# Altium integrated library Linear Technology Power Management System Supervisor, Monitor and Control.IntLib: 1611 symbols (part 61 of 100)
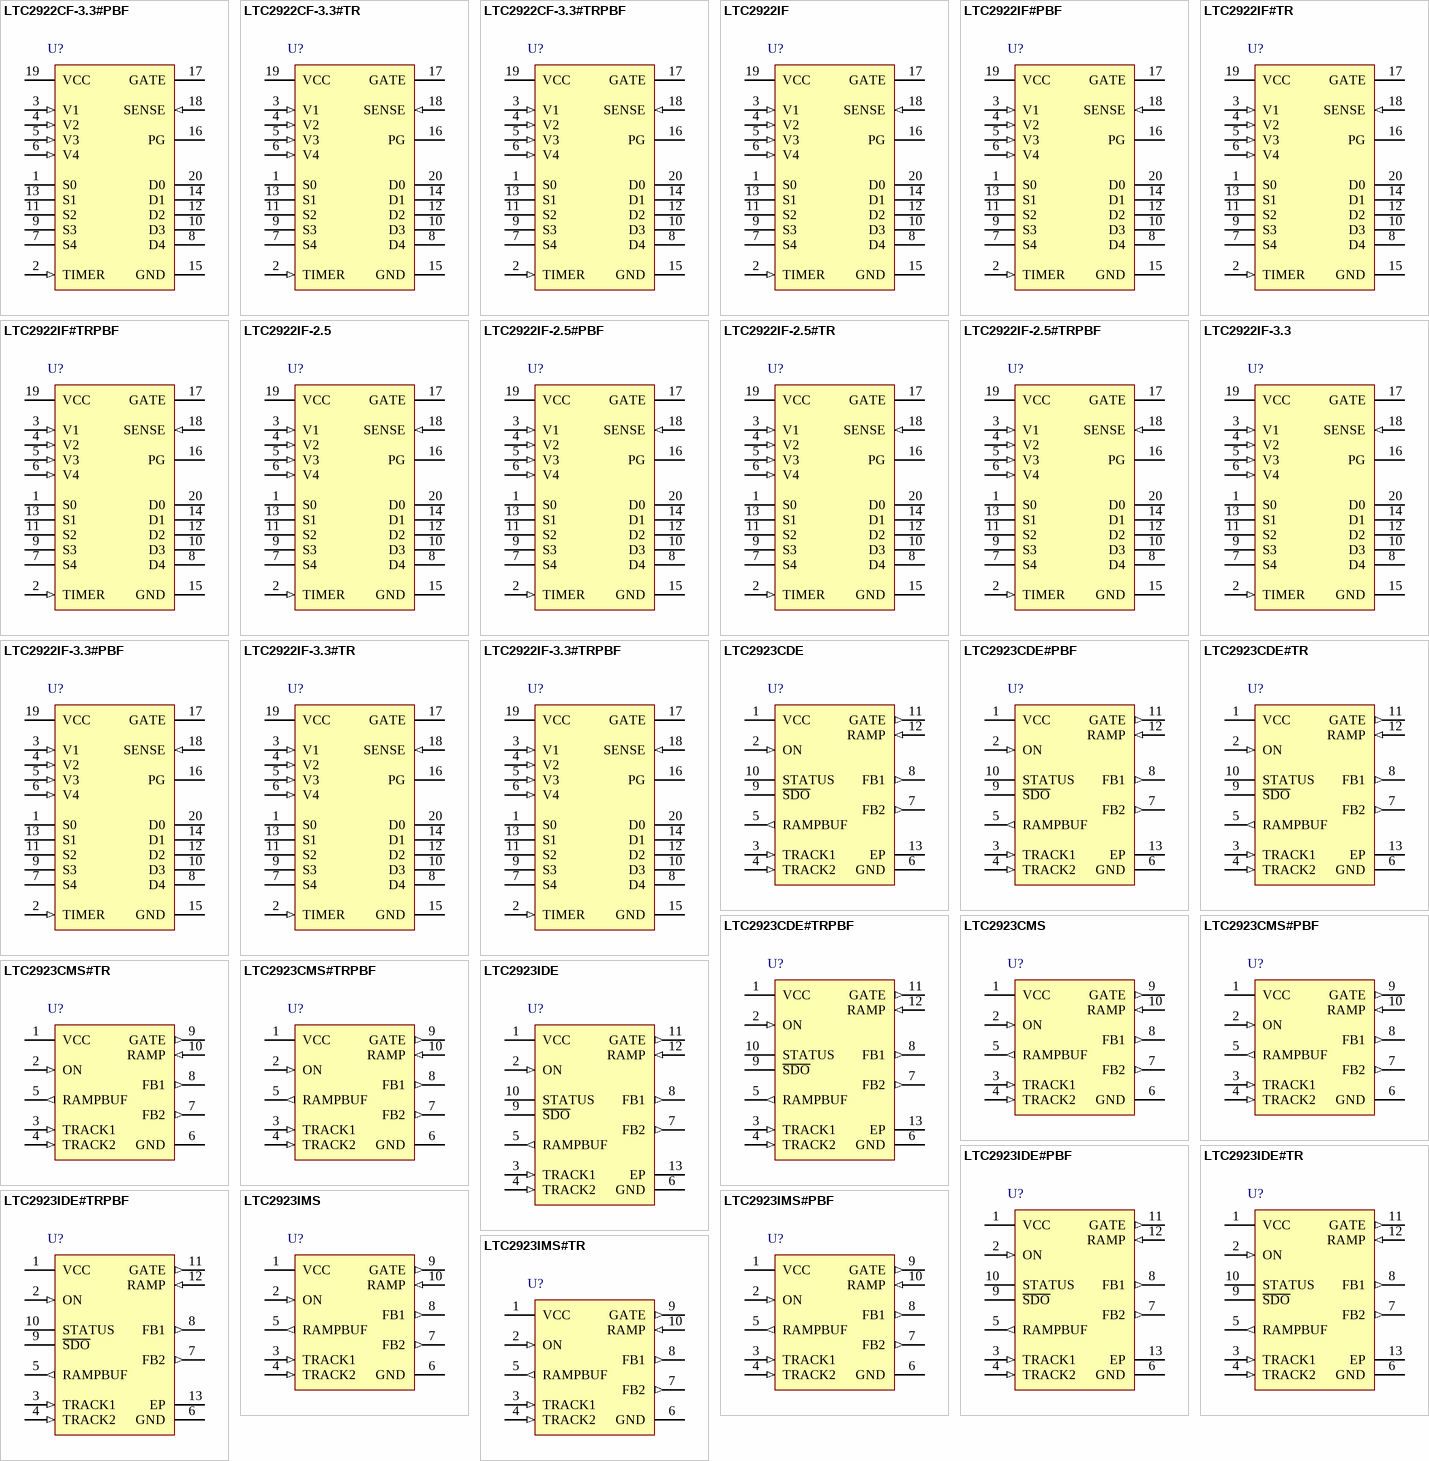
[diagram p105: symbols LTC2922CF-3.3#PBF to LTC2923IMS#TR]

## LTC2922IF#TRPBF
designator U?
Power Supply Tracker with Input Monitor, 20-pin SOP (F-20), -40 to 85 degC, Pb-Free, Tape and Reel; Manufacturer: Linear Technology; PartNumber: LTC2922IF#TRPBF; Number of Supplies(#): 5; DatasheetVersion: Rev. A; PackageVersion: Jun-10; PackageReference: F-20; PackageDescription: 20-Pin Plastic TSSOP, Body 6.5 x 4.4 mm, Pitch 0.65 mm; Supplier 1: Digi-Key; Supplier Part Number 1: LTC2922IF#TRPBF-ND; Packing: Tape and Reel; RoHS: TRUE; Mounting Technology: Surface Mount; ComponentLink1Description: Manufacturer URL; ComponentLink1URL: http://www.linear.com/; ComponentLink2Description: Datasheet; ComponentLink2URL: http://cds.linear.com/docs/en/datasheet/29212fa.pdf; ComponentLink3Description: Package Specification; ComponentLink3URL: http://cds.linear.com/docs/en/packaging/TSSOP_20_05-08-1650.pdf
footprint LT-F-20_N (SOP, 20-Leads, Body 6.6x4.5mm, Pitch 0.65mm, IPC Medium Density)
footprint LT-F-20_L (SOP, 20-Leads, Body 6.6x4.5mm, Pitch 0.65mm, IPC High Density)
footprint LT-F-20_M (SOP, 20-Leads, Body 6.6x4.5mm, Pitch 0.65mm, IPC Low Density)
pins: 1 S0 "Remote Switch 0. These pins are the terminals of an internal N-channel FET switch that is enabled after the GATE pin is fully ramped up. This switch can be used to connect a remote sense line to compensate for IR drop across (See Datasheet)", 2 TIMER (in) "Timing Delay Input. Connect a capacitor between this pin and ground to set a 600ms/mF delay at two points in the monitoring sequence. This sets the delay after all monitors are good, before the start of GATE ramping, and the (See Datasheet)", 3 V1 (in) "Supply Monitor Inputs. All four inputs must lie above the monitor threshold level (0.5V) and below the monitor overvoltage level (0.7V) for a turnon sequence to commence or continue. When any monitor input falls outside (See Datasheet)", 4 V2 (in) "Supply Monitor Inputs. All four inputs must lie above the monitor threshold level (0.5V) and below the monitor overvoltage level (0.7V) for a turnon sequence to commence or continue. When any monitor input falls outside (See Datasheet)", 5 V3 (in) "Supply Monitor Inputs. All four inputs must lie above the monitor threshold level (0.5V) and below the monitor overvoltage level (0.7V) for a turnon sequence to commence or continue. When any monitor input falls outside (See Datasheet)", 6 V4 (in) "Supply Monitor Inputs. All four inputs must lie above the monitor threshold level (0.5V) and below the monitor overvoltage level (0.7V) for a turnon sequence to commence or continue. When any monitor input falls outside (See Datasheet)", 7 S4 "Remote Sense Switch 4. Tie to GND if unused.", 8 D4 "Remote Sense Switch 4. Tie to GND if unused.", 9 S3 "Remote Sense Switch 3. Tie to GND if unused.", 10 D3 "Remote Sense Switch 3. Tie to GND if unused.", 11 S2 "Remote Sense Switch 2. Tie to GND if unused.", 12 D2 "Remote Sense Switch 2. Tie to GND if unused.", 13 S1 "Remote Sense Switch 1. Tie to GND if unused.", 14 D1 "Remote Sense Switch 1. Tie to GND if unused.", 15 GND (power) "Circuit Ground.", 16 PG (oc) "Power Good Output. A 4uA current source from the internal charge pump rail (VPUMP) pulls PG up after the turn-on sequence is complete. The output is pulled to ground before turn-on is complete, when any monitor is out of (See Datasheet)", 17 GATE (oc) "Gate Drive for External N-Channel FETs. A 10uA current source from the internal charge pump rail (VPUMP) ramps the gates of the external Nchannel MOSFETs forcing all supplies to track on. The resistor and capacitor network (See Datasheet)", 18 SENSE (in) "Circuit Breaker Sense Input. An external resistor between VCC and SENSE sets the electronic circuit breaker trip current. The breaker trips when the voltage across the resistor exceeds 50mV for 1us. To disable the circuit (See Datasheet)", 19 VCC (power) "Supply Voltage. The voltage at VCC is monitored through an internal resistive divider in a manner similar to the V1-V4 inputs. An undervoltage lockout circuit disables the part until the voltage at VCC is greater than 2.2V. (See Datasheet)", 20 D0 "Remote Switch 0. These pins are the terminals of an internal N-channel FET switch that is enabled after the GATE pin is fully ramped up. This switch can be used to connect a remote sense line to compensate for IR drop across (See Datasheet)"

## LTC2922IF-2.5
designator U?
Power Supply Tracker with Input Monitor, 20-pin SOP (F-20), -40 to 85 degC; Manufacturer: Linear Technology; PartNumber: LTC2922IF-2.5; Number of Supplies(#): 5; DatasheetVersion: Rev. A; PackageVersion: Jun-10; PackageReference: F-20; PackageDescription: 20-Pin Plastic TSSOP, Body 6.5 x 4.4 mm, Pitch 0.65 mm; Supplier 1: Digi-Key; Supplier Part Number 1: LTC2922IF-2.5-ND; RoHS: FALSE; Mounting Technology: Surface Mount; ComponentLink1Description: Manufacturer URL; ComponentLink1URL: http://www.linear.com/; ComponentLink2Description: Datasheet; ComponentLink2URL: http://cds.linear.com/docs/en/datasheet/29212fa.pdf; ComponentLink3Description: Package Specification; ComponentLink3URL: http://cds.linear.com/docs/en/packaging/TSSOP_20_05-08-1650.pdf
footprint LT-F-20_N (SOP, 20-Leads, Body 6.6x4.5mm, Pitch 0.65mm, IPC Medium Density)
footprint LT-F-20_L (SOP, 20-Leads, Body 6.6x4.5mm, Pitch 0.65mm, IPC High Density)
footprint LT-F-20_M (SOP, 20-Leads, Body 6.6x4.5mm, Pitch 0.65mm, IPC Low Density)
pins: 1 S0 "Remote Switch 0. These pins are the terminals of an internal N-channel FET switch that is enabled after the GATE pin is fully ramped up. This switch can be used to connect a remote sense line to compensate for IR drop across (See Datasheet)", 2 TIMER (in) "Timing Delay Input. Connect a capacitor between this pin and ground to set a 600ms/mF delay at two points in the monitoring sequence. This sets the delay after all monitors are good, before the start of GATE ramping, and the (See Datasheet)", 3 V1 (in) "Supply Monitor Inputs. All four inputs must lie above the monitor threshold level (0.5V) and below the monitor overvoltage level (0.7V) for a turnon sequence to commence or continue. When any monitor input falls outside (See Datasheet)", 4 V2 (in) "Supply Monitor Inputs. All four inputs must lie above the monitor threshold level (0.5V) and below the monitor overvoltage level (0.7V) for a turnon sequence to commence or continue. When any monitor input falls outside (See Datasheet)", 5 V3 (in) "Supply Monitor Inputs. All four inputs must lie above the monitor threshold level (0.5V) and below the monitor overvoltage level (0.7V) for a turnon sequence to commence or continue. When any monitor input falls outside (See Datasheet)", 6 V4 (in) "Supply Monitor Inputs. All four inputs must lie above the monitor threshold level (0.5V) and below the monitor overvoltage level (0.7V) for a turnon sequence to commence or continue. When any monitor input falls outside (See Datasheet)", 7 S4 "Remote Sense Switch 4. Tie to GND if unused.", 8 D4 "Remote Sense Switch 4. Tie to GND if unused.", 9 S3 "Remote Sense Switch 3. Tie to GND if unused.", 10 D3 "Remote Sense Switch 3. Tie to GND if unused.", 11 S2 "Remote Sense Switch 2. Tie to GND if unused.", 12 D2 "Remote Sense Switch 2. Tie to GND if unused.", 13 S1 "Remote Sense Switch 1. Tie to GND if unused.", 14 D1 "Remote Sense Switch 1. Tie to GND if unused.", 15 GND (power) "Circuit Ground.", 16 PG (oc) "Power Good Output. A 4uA current source from the internal charge pump rail (VPUMP) pulls PG up after the turn-on sequence is complete. The output is pulled to ground before turn-on is complete, when any monitor is out of (See Datasheet)", 17 GATE (oc) "Gate Drive for External N-Channel FETs. A 10uA current source from the internal charge pump rail (VPUMP) ramps the gates of the external Nchannel MOSFETs forcing all supplies to track on. The resistor and capacitor network (See Datasheet)", 18 SENSE (in) "Circuit Breaker Sense Input. An external resistor between VCC and SENSE sets the electronic circuit breaker trip current. The breaker trips when the voltage across the resistor exceeds 50mV for 1us. To disable the circuit (See Datasheet)", 19 VCC (power) "Supply Voltage. The voltage at VCC is monitored through an internal resistive divider in a manner similar to the V1-V4 inputs. An undervoltage lockout circuit disables the part until the voltage at VCC is greater than 2.2V. (See Datasheet)", 20 D0 "Remote Switch 0. These pins are the terminals of an internal N-channel FET switch that is enabled after the GATE pin is fully ramped up. This switch can be used to connect a remote sense line to compensate for IR drop across (See Datasheet)"

## LTC2922IF-2.5#PBF
designator U?
Power Supply Tracker with Input Monitor, 20-pin SOP (F-20), -40 to 85 degC, Pb-Free; Manufacturer: Linear Technology; PartNumber: LTC2922IF-2.5#PBF; Number of Supplies(#): 5; DatasheetVersion: Rev. A; PackageVersion: Jun-10; PackageReference: F-20; PackageDescription: 20-Pin Plastic TSSOP, Body 6.5 x 4.4 mm, Pitch 0.65 mm; Supplier 1: Digi-Key; Supplier Part Number 1: LTC2922IF-2.5#PBF-ND; RoHS: TRUE; Mounting Technology: Surface Mount; ComponentLink1Description: Manufacturer URL; ComponentLink1URL: http://www.linear.com/; ComponentLink2Description: Datasheet; ComponentLink2URL: http://cds.linear.com/docs/en/datasheet/29212fa.pdf; ComponentLink3Description: Package Specification; ComponentLink3URL: http://cds.linear.com/docs/en/packaging/TSSOP_20_05-08-1650.pdf
footprint LT-F-20_N (SOP, 20-Leads, Body 6.6x4.5mm, Pitch 0.65mm, IPC Medium Density)
footprint LT-F-20_L (SOP, 20-Leads, Body 6.6x4.5mm, Pitch 0.65mm, IPC High Density)
footprint LT-F-20_M (SOP, 20-Leads, Body 6.6x4.5mm, Pitch 0.65mm, IPC Low Density)
pins: 1 S0 "Remote Switch 0. These pins are the terminals of an internal N-channel FET switch that is enabled after the GATE pin is fully ramped up. This switch can be used to connect a remote sense line to compensate for IR drop across (See Datasheet)", 2 TIMER (in) "Timing Delay Input. Connect a capacitor between this pin and ground to set a 600ms/mF delay at two points in the monitoring sequence. This sets the delay after all monitors are good, before the start of GATE ramping, and the (See Datasheet)", 3 V1 (in) "Supply Monitor Inputs. All four inputs must lie above the monitor threshold level (0.5V) and below the monitor overvoltage level (0.7V) for a turnon sequence to commence or continue. When any monitor input falls outside (See Datasheet)", 4 V2 (in) "Supply Monitor Inputs. All four inputs must lie above the monitor threshold level (0.5V) and below the monitor overvoltage level (0.7V) for a turnon sequence to commence or continue. When any monitor input falls outside (See Datasheet)", 5 V3 (in) "Supply Monitor Inputs. All four inputs must lie above the monitor threshold level (0.5V) and below the monitor overvoltage level (0.7V) for a turnon sequence to commence or continue. When any monitor input falls outside (See Datasheet)", 6 V4 (in) "Supply Monitor Inputs. All four inputs must lie above the monitor threshold level (0.5V) and below the monitor overvoltage level (0.7V) for a turnon sequence to commence or continue. When any monitor input falls outside (See Datasheet)", 7 S4 "Remote Sense Switch 4. Tie to GND if unused.", 8 D4 "Remote Sense Switch 4. Tie to GND if unused.", 9 S3 "Remote Sense Switch 3. Tie to GND if unused.", 10 D3 "Remote Sense Switch 3. Tie to GND if unused.", 11 S2 "Remote Sense Switch 2. Tie to GND if unused.", 12 D2 "Remote Sense Switch 2. Tie to GND if unused.", 13 S1 "Remote Sense Switch 1. Tie to GND if unused.", 14 D1 "Remote Sense Switch 1. Tie to GND if unused.", 15 GND (power) "Circuit Ground.", 16 PG (oc) "Power Good Output. A 4uA current source from the internal charge pump rail (VPUMP) pulls PG up after the turn-on sequence is complete. The output is pulled to ground before turn-on is complete, when any monitor is out of (See Datasheet)", 17 GATE (oc) "Gate Drive for External N-Channel FETs. A 10uA current source from the internal charge pump rail (VPUMP) ramps the gates of the external Nchannel MOSFETs forcing all supplies to track on. The resistor and capacitor network (See Datasheet)", 18 SENSE (in) "Circuit Breaker Sense Input. An external resistor between VCC and SENSE sets the electronic circuit breaker trip current. The breaker trips when the voltage across the resistor exceeds 50mV for 1us. To disable the circuit (See Datasheet)", 19 VCC (power) "Supply Voltage. The voltage at VCC is monitored through an internal resistive divider in a manner similar to the V1-V4 inputs. An undervoltage lockout circuit disables the part until the voltage at VCC is greater than 2.2V. (See Datasheet)", 20 D0 "Remote Switch 0. These pins are the terminals of an internal N-channel FET switch that is enabled after the GATE pin is fully ramped up. This switch can be used to connect a remote sense line to compensate for IR drop across (See Datasheet)"

## LTC2922IF-2.5#TR
designator U?
Power Supply Tracker with Input Monitor, 20-pin SOP (F-20), -40 to 85 degC, Tape and Reel; Manufacturer: Linear Technology; PartNumber: LTC2922IF-2.5#TR; Number of Supplies(#): 5; DatasheetVersion: Rev. A; PackageVersion: Jun-10; PackageReference: F-20; PackageDescription: 20-Pin Plastic TSSOP, Body 6.5 x 4.4 mm, Pitch 0.65 mm; Supplier 1: Digi-Key; Supplier Part Number 1: LTC2922IF-2.5#TR-ND; Packing: Tape and Reel; RoHS: FALSE; Mounting Technology: Surface Mount; ComponentLink1Description: Manufacturer URL; ComponentLink1URL: http://www.linear.com/; ComponentLink2Description: Datasheet; ComponentLink2URL: http://cds.linear.com/docs/en/datasheet/29212fa.pdf; ComponentLink3Description: Package Specification; ComponentLink3URL: http://cds.linear.com/docs/en/packaging/TSSOP_20_05-08-1650.pdf
footprint LT-F-20_N (SOP, 20-Leads, Body 6.6x4.5mm, Pitch 0.65mm, IPC Medium Density)
footprint LT-F-20_L (SOP, 20-Leads, Body 6.6x4.5mm, Pitch 0.65mm, IPC High Density)
footprint LT-F-20_M (SOP, 20-Leads, Body 6.6x4.5mm, Pitch 0.65mm, IPC Low Density)
pins: 1 S0 "Remote Switch 0. These pins are the terminals of an internal N-channel FET switch that is enabled after the GATE pin is fully ramped up. This switch can be used to connect a remote sense line to compensate for IR drop across (See Datasheet)", 2 TIMER (in) "Timing Delay Input. Connect a capacitor between this pin and ground to set a 600ms/mF delay at two points in the monitoring sequence. This sets the delay after all monitors are good, before the start of GATE ramping, and the (See Datasheet)", 3 V1 (in) "Supply Monitor Inputs. All four inputs must lie above the monitor threshold level (0.5V) and below the monitor overvoltage level (0.7V) for a turnon sequence to commence or continue. When any monitor input falls outside (See Datasheet)", 4 V2 (in) "Supply Monitor Inputs. All four inputs must lie above the monitor threshold level (0.5V) and below the monitor overvoltage level (0.7V) for a turnon sequence to commence or continue. When any monitor input falls outside (See Datasheet)", 5 V3 (in) "Supply Monitor Inputs. All four inputs must lie above the monitor threshold level (0.5V) and below the monitor overvoltage level (0.7V) for a turnon sequence to commence or continue. When any monitor input falls outside (See Datasheet)", 6 V4 (in) "Supply Monitor Inputs. All four inputs must lie above the monitor threshold level (0.5V) and below the monitor overvoltage level (0.7V) for a turnon sequence to commence or continue. When any monitor input falls outside (See Datasheet)", 7 S4 "Remote Sense Switch 4. Tie to GND if unused.", 8 D4 "Remote Sense Switch 4. Tie to GND if unused.", 9 S3 "Remote Sense Switch 3. Tie to GND if unused.", 10 D3 "Remote Sense Switch 3. Tie to GND if unused.", 11 S2 "Remote Sense Switch 2. Tie to GND if unused.", 12 D2 "Remote Sense Switch 2. Tie to GND if unused.", 13 S1 "Remote Sense Switch 1. Tie to GND if unused.", 14 D1 "Remote Sense Switch 1. Tie to GND if unused.", 15 GND (power) "Circuit Ground.", 16 PG (oc) "Power Good Output. A 4uA current source from the internal charge pump rail (VPUMP) pulls PG up after the turn-on sequence is complete. The output is pulled to ground before turn-on is complete, when any monitor is out of (See Datasheet)", 17 GATE (oc) "Gate Drive for External N-Channel FETs. A 10uA current source from the internal charge pump rail (VPUMP) ramps the gates of the external Nchannel MOSFETs forcing all supplies to track on. The resistor and capacitor network (See Datasheet)", 18 SENSE (in) "Circuit Breaker Sense Input. An external resistor between VCC and SENSE sets the electronic circuit breaker trip current. The breaker trips when the voltage across the resistor exceeds 50mV for 1us. To disable the circuit (See Datasheet)", 19 VCC (power) "Supply Voltage. The voltage at VCC is monitored through an internal resistive divider in a manner similar to the V1-V4 inputs. An undervoltage lockout circuit disables the part until the voltage at VCC is greater than 2.2V. (See Datasheet)", 20 D0 "Remote Switch 0. These pins are the terminals of an internal N-channel FET switch that is enabled after the GATE pin is fully ramped up. This switch can be used to connect a remote sense line to compensate for IR drop across (See Datasheet)"

## LTC2922IF-2.5#TRPBF
designator U?
Power Supply Tracker with Input Monitor, 20-pin SOP (F-20), -40 to 85 degC, Pb-Free, Tape and Reel; Manufacturer: Linear Technology; PartNumber: LTC2922IF-2.5#TRPBF; Number of Supplies(#): 5; DatasheetVersion: Rev. A; PackageVersion: Jun-10; PackageReference: F-20; PackageDescription: 20-Pin Plastic TSSOP, Body 6.5 x 4.4 mm, Pitch 0.65 mm; Supplier 1: Digi-Key; Supplier Part Number 1: LTC2922IF-2.5#TRPBF-ND; Packing: Tape and Reel; RoHS: TRUE; Mounting Technology: Surface Mount; ComponentLink1Description: Manufacturer URL; ComponentLink1URL: http://www.linear.com/; ComponentLink2Description: Datasheet; ComponentLink2URL: http://cds.linear.com/docs/en/datasheet/29212fa.pdf; ComponentLink3Description: Package Specification; ComponentLink3URL: http://cds.linear.com/docs/en/packaging/TSSOP_20_05-08-1650.pdf
footprint LT-F-20_N (SOP, 20-Leads, Body 6.6x4.5mm, Pitch 0.65mm, IPC Medium Density)
footprint LT-F-20_L (SOP, 20-Leads, Body 6.6x4.5mm, Pitch 0.65mm, IPC High Density)
footprint LT-F-20_M (SOP, 20-Leads, Body 6.6x4.5mm, Pitch 0.65mm, IPC Low Density)
pins: 1 S0 "Remote Switch 0. These pins are the terminals of an internal N-channel FET switch that is enabled after the GATE pin is fully ramped up. This switch can be used to connect a remote sense line to compensate for IR drop across (See Datasheet)", 2 TIMER (in) "Timing Delay Input. Connect a capacitor between this pin and ground to set a 600ms/mF delay at two points in the monitoring sequence. This sets the delay after all monitors are good, before the start of GATE ramping, and the (See Datasheet)", 3 V1 (in) "Supply Monitor Inputs. All four inputs must lie above the monitor threshold level (0.5V) and below the monitor overvoltage level (0.7V) for a turnon sequence to commence or continue. When any monitor input falls outside (See Datasheet)", 4 V2 (in) "Supply Monitor Inputs. All four inputs must lie above the monitor threshold level (0.5V) and below the monitor overvoltage level (0.7V) for a turnon sequence to commence or continue. When any monitor input falls outside (See Datasheet)", 5 V3 (in) "Supply Monitor Inputs. All four inputs must lie above the monitor threshold level (0.5V) and below the monitor overvoltage level (0.7V) for a turnon sequence to commence or continue. When any monitor input falls outside (See Datasheet)", 6 V4 (in) "Supply Monitor Inputs. All four inputs must lie above the monitor threshold level (0.5V) and below the monitor overvoltage level (0.7V) for a turnon sequence to commence or continue. When any monitor input falls outside (See Datasheet)", 7 S4 "Remote Sense Switch 4. Tie to GND if unused.", 8 D4 "Remote Sense Switch 4. Tie to GND if unused.", 9 S3 "Remote Sense Switch 3. Tie to GND if unused.", 10 D3 "Remote Sense Switch 3. Tie to GND if unused.", 11 S2 "Remote Sense Switch 2. Tie to GND if unused.", 12 D2 "Remote Sense Switch 2. Tie to GND if unused.", 13 S1 "Remote Sense Switch 1. Tie to GND if unused.", 14 D1 "Remote Sense Switch 1. Tie to GND if unused.", 15 GND (power) "Circuit Ground.", 16 PG (oc) "Power Good Output. A 4uA current source from the internal charge pump rail (VPUMP) pulls PG up after the turn-on sequence is complete. The output is pulled to ground before turn-on is complete, when any monitor is out of (See Datasheet)", 17 GATE (oc) "Gate Drive for External N-Channel FETs. A 10uA current source from the internal charge pump rail (VPUMP) ramps the gates of the external Nchannel MOSFETs forcing all supplies to track on. The resistor and capacitor network (See Datasheet)", 18 SENSE (in) "Circuit Breaker Sense Input. An external resistor between VCC and SENSE sets the electronic circuit breaker trip current. The breaker trips when the voltage across the resistor exceeds 50mV for 1us. To disable the circuit (See Datasheet)", 19 VCC (power) "Supply Voltage. The voltage at VCC is monitored through an internal resistive divider in a manner similar to the V1-V4 inputs. An undervoltage lockout circuit disables the part until the voltage at VCC is greater than 2.2V. (See Datasheet)", 20 D0 "Remote Switch 0. These pins are the terminals of an internal N-channel FET switch that is enabled after the GATE pin is fully ramped up. This switch can be used to connect a remote sense line to compensate for IR drop across (See Datasheet)"

## LTC2922IF-3.3
designator U?
Power Supply Tracker with Input Monitor, 20-pin SOP (F-20), -40 to 85 degC; Manufacturer: Linear Technology; PartNumber: LTC2922IF-3.3; Number of Supplies(#): 5; DatasheetVersion: Rev. A; PackageVersion: Jun-10; PackageReference: F-20; PackageDescription: 20-Pin Plastic TSSOP, Body 6.5 x 4.4 mm, Pitch 0.65 mm; Supplier 1: Digi-Key; Supplier Part Number 1: LTC2922IF-3.3-ND; RoHS: FALSE; Mounting Technology: Surface Mount; ComponentLink1Description: Manufacturer URL; ComponentLink1URL: http://www.linear.com/; ComponentLink2Description: Datasheet; ComponentLink2URL: http://cds.linear.com/docs/en/datasheet/29212fa.pdf; ComponentLink3Description: Package Specification; ComponentLink3URL: http://cds.linear.com/docs/en/packaging/TSSOP_20_05-08-1650.pdf
footprint LT-F-20_N (SOP, 20-Leads, Body 6.6x4.5mm, Pitch 0.65mm, IPC Medium Density)
footprint LT-F-20_L (SOP, 20-Leads, Body 6.6x4.5mm, Pitch 0.65mm, IPC High Density)
footprint LT-F-20_M (SOP, 20-Leads, Body 6.6x4.5mm, Pitch 0.65mm, IPC Low Density)
pins: 1 S0 "Remote Switch 0. These pins are the terminals of an internal N-channel FET switch that is enabled after the GATE pin is fully ramped up. This switch can be used to connect a remote sense line to compensate for IR drop across (See Datasheet)", 2 TIMER (in) "Timing Delay Input. Connect a capacitor between this pin and ground to set a 600ms/mF delay at two points in the monitoring sequence. This sets the delay after all monitors are good, before the start of GATE ramping, and the (See Datasheet)", 3 V1 (in) "Supply Monitor Inputs. All four inputs must lie above the monitor threshold level (0.5V) and below the monitor overvoltage level (0.7V) for a turnon sequence to commence or continue. When any monitor input falls outside (See Datasheet)", 4 V2 (in) "Supply Monitor Inputs. All four inputs must lie above the monitor threshold level (0.5V) and below the monitor overvoltage level (0.7V) for a turnon sequence to commence or continue. When any monitor input falls outside (See Datasheet)", 5 V3 (in) "Supply Monitor Inputs. All four inputs must lie above the monitor threshold level (0.5V) and below the monitor overvoltage level (0.7V) for a turnon sequence to commence or continue. When any monitor input falls outside (See Datasheet)", 6 V4 (in) "Supply Monitor Inputs. All four inputs must lie above the monitor threshold level (0.5V) and below the monitor overvoltage level (0.7V) for a turnon sequence to commence or continue. When any monitor input falls outside (See Datasheet)", 7 S4 "Remote Sense Switch 4. Tie to GND if unused.", 8 D4 "Remote Sense Switch 4. Tie to GND if unused.", 9 S3 "Remote Sense Switch 3. Tie to GND if unused.", 10 D3 "Remote Sense Switch 3. Tie to GND if unused.", 11 S2 "Remote Sense Switch 2. Tie to GND if unused.", 12 D2 "Remote Sense Switch 2. Tie to GND if unused.", 13 S1 "Remote Sense Switch 1. Tie to GND if unused.", 14 D1 "Remote Sense Switch 1. Tie to GND if unused.", 15 GND (power) "Circuit Ground.", 16 PG (oc) "Power Good Output. A 4uA current source from the internal charge pump rail (VPUMP) pulls PG up after the turn-on sequence is complete. The output is pulled to ground before turn-on is complete, when any monitor is out of (See Datasheet)", 17 GATE (oc) "Gate Drive for External N-Channel FETs. A 10uA current source from the internal charge pump rail (VPUMP) ramps the gates of the external Nchannel MOSFETs forcing all supplies to track on. The resistor and capacitor network (See Datasheet)", 18 SENSE (in) "Circuit Breaker Sense Input. An external resistor between VCC and SENSE sets the electronic circuit breaker trip current. The breaker trips when the voltage across the resistor exceeds 50mV for 1us. To disable the circuit (See Datasheet)", 19 VCC (power) "Supply Voltage. The voltage at VCC is monitored through an internal resistive divider in a manner similar to the V1-V4 inputs. An undervoltage lockout circuit disables the part until the voltage at VCC is greater than 2.2V. (See Datasheet)", 20 D0 "Remote Switch 0. These pins are the terminals of an internal N-channel FET switch that is enabled after the GATE pin is fully ramped up. This switch can be used to connect a remote sense line to compensate for IR drop across (See Datasheet)"

## LTC2922IF-3.3#PBF
designator U?
Power Supply Tracker with Input Monitor, 20-pin SOP (F-20), -40 to 85 degC, Pb-Free; Manufacturer: Linear Technology; PartNumber: LTC2922IF-3.3#PBF; Number of Supplies(#): 5; DatasheetVersion: Rev. A; PackageVersion: Jun-10; PackageReference: F-20; PackageDescription: 20-Pin Plastic TSSOP, Body 6.5 x 4.4 mm, Pitch 0.65 mm; Supplier 1: Digi-Key; Supplier Part Number 1: LTC2922IF-3.3#PBF-ND; RoHS: TRUE; Mounting Technology: Surface Mount; ComponentLink1Description: Manufacturer URL; ComponentLink1URL: http://www.linear.com/; ComponentLink2Description: Datasheet; ComponentLink2URL: http://cds.linear.com/docs/en/datasheet/29212fa.pdf; ComponentLink3Description: Package Specification; ComponentLink3URL: http://cds.linear.com/docs/en/packaging/TSSOP_20_05-08-1650.pdf
footprint LT-F-20_N (SOP, 20-Leads, Body 6.6x4.5mm, Pitch 0.65mm, IPC Medium Density)
footprint LT-F-20_L (SOP, 20-Leads, Body 6.6x4.5mm, Pitch 0.65mm, IPC High Density)
footprint LT-F-20_M (SOP, 20-Leads, Body 6.6x4.5mm, Pitch 0.65mm, IPC Low Density)
pins: 1 S0 "Remote Switch 0. These pins are the terminals of an internal N-channel FET switch that is enabled after the GATE pin is fully ramped up. This switch can be used to connect a remote sense line to compensate for IR drop across (See Datasheet)", 2 TIMER (in) "Timing Delay Input. Connect a capacitor between this pin and ground to set a 600ms/mF delay at two points in the monitoring sequence. This sets the delay after all monitors are good, before the start of GATE ramping, and the (See Datasheet)", 3 V1 (in) "Supply Monitor Inputs. All four inputs must lie above the monitor threshold level (0.5V) and below the monitor overvoltage level (0.7V) for a turnon sequence to commence or continue. When any monitor input falls outside (See Datasheet)", 4 V2 (in) "Supply Monitor Inputs. All four inputs must lie above the monitor threshold level (0.5V) and below the monitor overvoltage level (0.7V) for a turnon sequence to commence or continue. When any monitor input falls outside (See Datasheet)", 5 V3 (in) "Supply Monitor Inputs. All four inputs must lie above the monitor threshold level (0.5V) and below the monitor overvoltage level (0.7V) for a turnon sequence to commence or continue. When any monitor input falls outside (See Datasheet)", 6 V4 (in) "Supply Monitor Inputs. All four inputs must lie above the monitor threshold level (0.5V) and below the monitor overvoltage level (0.7V) for a turnon sequence to commence or continue. When any monitor input falls outside (See Datasheet)", 7 S4 "Remote Sense Switch 4. Tie to GND if unused.", 8 D4 "Remote Sense Switch 4. Tie to GND if unused.", 9 S3 "Remote Sense Switch 3. Tie to GND if unused.", 10 D3 "Remote Sense Switch 3. Tie to GND if unused.", 11 S2 "Remote Sense Switch 2. Tie to GND if unused.", 12 D2 "Remote Sense Switch 2. Tie to GND if unused.", 13 S1 "Remote Sense Switch 1. Tie to GND if unused.", 14 D1 "Remote Sense Switch 1. Tie to GND if unused.", 15 GND (power) "Circuit Ground.", 16 PG (oc) "Power Good Output. A 4uA current source from the internal charge pump rail (VPUMP) pulls PG up after the turn-on sequence is complete. The output is pulled to ground before turn-on is complete, when any monitor is out of (See Datasheet)", 17 GATE (oc) "Gate Drive for External N-Channel FETs. A 10uA current source from the internal charge pump rail (VPUMP) ramps the gates of the external Nchannel MOSFETs forcing all supplies to track on. The resistor and capacitor network (See Datasheet)", 18 SENSE (in) "Circuit Breaker Sense Input. An external resistor between VCC and SENSE sets the electronic circuit breaker trip current. The breaker trips when the voltage across the resistor exceeds 50mV for 1us. To disable the circuit (See Datasheet)", 19 VCC (power) "Supply Voltage. The voltage at VCC is monitored through an internal resistive divider in a manner similar to the V1-V4 inputs. An undervoltage lockout circuit disables the part until the voltage at VCC is greater than 2.2V. (See Datasheet)", 20 D0 "Remote Switch 0. These pins are the terminals of an internal N-channel FET switch that is enabled after the GATE pin is fully ramped up. This switch can be used to connect a remote sense line to compensate for IR drop across (See Datasheet)"

## LTC2922IF-3.3#TR
designator U?
Power Supply Tracker with Input Monitor, 20-pin SOP (F-20), -40 to 85 degC, Tape and Reel; Manufacturer: Linear Technology; PartNumber: LTC2922IF-3.3#TR; Number of Supplies(#): 5; DatasheetVersion: Rev. A; PackageVersion: Jun-10; PackageReference: F-20; PackageDescription: 20-Pin Plastic TSSOP, Body 6.5 x 4.4 mm, Pitch 0.65 mm; Supplier 1: Digi-Key; Supplier Part Number 1: LTC2922IF-3.3#TR-ND; Packing: Tape and Reel; RoHS: FALSE; Mounting Technology: Surface Mount; ComponentLink1Description: Manufacturer URL; ComponentLink1URL: http://www.linear.com/; ComponentLink2Description: Datasheet; ComponentLink2URL: http://cds.linear.com/docs/en/datasheet/29212fa.pdf; ComponentLink3Description: Package Specification; ComponentLink3URL: http://cds.linear.com/docs/en/packaging/TSSOP_20_05-08-1650.pdf
footprint LT-F-20_N (SOP, 20-Leads, Body 6.6x4.5mm, Pitch 0.65mm, IPC Medium Density)
footprint LT-F-20_L (SOP, 20-Leads, Body 6.6x4.5mm, Pitch 0.65mm, IPC High Density)
footprint LT-F-20_M (SOP, 20-Leads, Body 6.6x4.5mm, Pitch 0.65mm, IPC Low Density)
pins: 1 S0 "Remote Switch 0. These pins are the terminals of an internal N-channel FET switch that is enabled after the GATE pin is fully ramped up. This switch can be used to connect a remote sense line to compensate for IR drop across (See Datasheet)", 2 TIMER (in) "Timing Delay Input. Connect a capacitor between this pin and ground to set a 600ms/mF delay at two points in the monitoring sequence. This sets the delay after all monitors are good, before the start of GATE ramping, and the (See Datasheet)", 3 V1 (in) "Supply Monitor Inputs. All four inputs must lie above the monitor threshold level (0.5V) and below the monitor overvoltage level (0.7V) for a turnon sequence to commence or continue. When any monitor input falls outside (See Datasheet)", 4 V2 (in) "Supply Monitor Inputs. All four inputs must lie above the monitor threshold level (0.5V) and below the monitor overvoltage level (0.7V) for a turnon sequence to commence or continue. When any monitor input falls outside (See Datasheet)", 5 V3 (in) "Supply Monitor Inputs. All four inputs must lie above the monitor threshold level (0.5V) and below the monitor overvoltage level (0.7V) for a turnon sequence to commence or continue. When any monitor input falls outside (See Datasheet)", 6 V4 (in) "Supply Monitor Inputs. All four inputs must lie above the monitor threshold level (0.5V) and below the monitor overvoltage level (0.7V) for a turnon sequence to commence or continue. When any monitor input falls outside (See Datasheet)", 7 S4 "Remote Sense Switch 4. Tie to GND if unused.", 8 D4 "Remote Sense Switch 4. Tie to GND if unused.", 9 S3 "Remote Sense Switch 3. Tie to GND if unused.", 10 D3 "Remote Sense Switch 3. Tie to GND if unused.", 11 S2 "Remote Sense Switch 2. Tie to GND if unused.", 12 D2 "Remote Sense Switch 2. Tie to GND if unused.", 13 S1 "Remote Sense Switch 1. Tie to GND if unused.", 14 D1 "Remote Sense Switch 1. Tie to GND if unused.", 15 GND (power) "Circuit Ground.", 16 PG (oc) "Power Good Output. A 4uA current source from the internal charge pump rail (VPUMP) pulls PG up after the turn-on sequence is complete. The output is pulled to ground before turn-on is complete, when any monitor is out of (See Datasheet)", 17 GATE (oc) "Gate Drive for External N-Channel FETs. A 10uA current source from the internal charge pump rail (VPUMP) ramps the gates of the external Nchannel MOSFETs forcing all supplies to track on. The resistor and capacitor network (See Datasheet)", 18 SENSE (in) "Circuit Breaker Sense Input. An external resistor between VCC and SENSE sets the electronic circuit breaker trip current. The breaker trips when the voltage across the resistor exceeds 50mV for 1us. To disable the circuit (See Datasheet)", 19 VCC (power) "Supply Voltage. The voltage at VCC is monitored through an internal resistive divider in a manner similar to the V1-V4 inputs. An undervoltage lockout circuit disables the part until the voltage at VCC is greater than 2.2V. (See Datasheet)", 20 D0 "Remote Switch 0. These pins are the terminals of an internal N-channel FET switch that is enabled after the GATE pin is fully ramped up. This switch can be used to connect a remote sense line to compensate for IR drop across (See Datasheet)"

## LTC2922IF-3.3#TRPBF
designator U?
Power Supply Tracker with Input Monitor, 20-pin SOP (F-20), -40 to 85 degC, Pb-Free, Tape and Reel; Manufacturer: Linear Technology; PartNumber: LTC2922IF-3.3#TRPBF; Number of Supplies(#): 5; DatasheetVersion: Rev. A; PackageVersion: Jun-10; PackageReference: F-20; PackageDescription: 20-Pin Plastic TSSOP, Body 6.5 x 4.4 mm, Pitch 0.65 mm; Supplier 1: Digi-Key; Supplier Part Number 1: LTC2922IF-3.3#TRPBF-ND; Packing: Tape and Reel; RoHS: TRUE; Mounting Technology: Surface Mount; ComponentLink1Description: Manufacturer URL; ComponentLink1URL: http://www.linear.com/; ComponentLink2Description: Datasheet; ComponentLink2URL: http://cds.linear.com/docs/en/datasheet/29212fa.pdf; ComponentLink3Description: Package Specification; ComponentLink3URL: http://cds.linear.com/docs/en/packaging/TSSOP_20_05-08-1650.pdf
footprint LT-F-20_N (SOP, 20-Leads, Body 6.6x4.5mm, Pitch 0.65mm, IPC Medium Density)
footprint LT-F-20_L (SOP, 20-Leads, Body 6.6x4.5mm, Pitch 0.65mm, IPC High Density)
footprint LT-F-20_M (SOP, 20-Leads, Body 6.6x4.5mm, Pitch 0.65mm, IPC Low Density)
pins: 1 S0 "Remote Switch 0. These pins are the terminals of an internal N-channel FET switch that is enabled after the GATE pin is fully ramped up. This switch can be used to connect a remote sense line to compensate for IR drop across (See Datasheet)", 2 TIMER (in) "Timing Delay Input. Connect a capacitor between this pin and ground to set a 600ms/mF delay at two points in the monitoring sequence. This sets the delay after all monitors are good, before the start of GATE ramping, and the (See Datasheet)", 3 V1 (in) "Supply Monitor Inputs. All four inputs must lie above the monitor threshold level (0.5V) and below the monitor overvoltage level (0.7V) for a turnon sequence to commence or continue. When any monitor input falls outside (See Datasheet)", 4 V2 (in) "Supply Monitor Inputs. All four inputs must lie above the monitor threshold level (0.5V) and below the monitor overvoltage level (0.7V) for a turnon sequence to commence or continue. When any monitor input falls outside (See Datasheet)", 5 V3 (in) "Supply Monitor Inputs. All four inputs must lie above the monitor threshold level (0.5V) and below the monitor overvoltage level (0.7V) for a turnon sequence to commence or continue. When any monitor input falls outside (See Datasheet)", 6 V4 (in) "Supply Monitor Inputs. All four inputs must lie above the monitor threshold level (0.5V) and below the monitor overvoltage level (0.7V) for a turnon sequence to commence or continue. When any monitor input falls outside (See Datasheet)", 7 S4 "Remote Sense Switch 4. Tie to GND if unused.", 8 D4 "Remote Sense Switch 4. Tie to GND if unused.", 9 S3 "Remote Sense Switch 3. Tie to GND if unused.", 10 D3 "Remote Sense Switch 3. Tie to GND if unused.", 11 S2 "Remote Sense Switch 2. Tie to GND if unused.", 12 D2 "Remote Sense Switch 2. Tie to GND if unused.", 13 S1 "Remote Sense Switch 1. Tie to GND if unused.", 14 D1 "Remote Sense Switch 1. Tie to GND if unused.", 15 GND (power) "Circuit Ground.", 16 PG (oc) "Power Good Output. A 4uA current source from the internal charge pump rail (VPUMP) pulls PG up after the turn-on sequence is complete. The output is pulled to ground before turn-on is complete, when any monitor is out of (See Datasheet)", 17 GATE (oc) "Gate Drive for External N-Channel FETs. A 10uA current source from the internal charge pump rail (VPUMP) ramps the gates of the external Nchannel MOSFETs forcing all supplies to track on. The resistor and capacitor network (See Datasheet)", 18 SENSE (in) "Circuit Breaker Sense Input. An external resistor between VCC and SENSE sets the electronic circuit breaker trip current. The breaker trips when the voltage across the resistor exceeds 50mV for 1us. To disable the circuit (See Datasheet)", 19 VCC (power) "Supply Voltage. The voltage at VCC is monitored through an internal resistive divider in a manner similar to the V1-V4 inputs. An undervoltage lockout circuit disables the part until the voltage at VCC is greater than 2.2V. (See Datasheet)", 20 D0 "Remote Switch 0. These pins are the terminals of an internal N-channel FET switch that is enabled after the GATE pin is fully ramped up. This switch can be used to connect a remote sense line to compensate for IR drop across (See Datasheet)"

## LTC2923CDE
designator U?
Power Supply Tracking Controller, 12-pin SON (DE-12), 0 to 70 degC; Manufacturer: Linear Technology; PartNumber: LTC2923CDE; Number of Supplies(#): 3; DatasheetVersion: Rev. A; PackageVersion: Rev. D, 06/2010; PackageReference: DE-12; PackageDescription: 12-Pin Plastic DFN, Body 4 x 3 mm, Pitch 0.5 mm; Supplier 1: Digi-Key; Supplier Part Number 1: LTC2923CDE-ND; RoHS: FALSE; Mounting Technology: Surface Mount; Code_JEDEC: MO-229; ComponentLink1Description: Manufacturer URL; ComponentLink1URL: http://www.linear.com/; ComponentLink2Description: Datasheet; ComponentLink2URL: http://cds.linear.com/docs/en/datasheet/2923fa.pdf; ComponentLink3Description: Package Specification; ComponentLink3URL: http://cds.linear.com/docs/en/packaging/DFN_12_05-08-1695.pdf
footprint LT-DE-12-05-08-1695_V (SON, 12-Leads, Body 4x3mm, Pitch 0.5mm, Thermal Pad 3.3x1.7mm)
pins: 1 VCC (power) "Positive Supply Input Pin. The operating supply input range is 2.9V to 5.5V. An undervoltage lockout circuit resets the part when the supply is below 2.5V. VCC should be bypassed to GND with a 0.1uF capacitor.", 2 ON (in) "On Control Input. The ON pin has a threshold of 1.23V with 75mV of hysteresis. An active high will cause 10uA to flow from the GATE pin, ramping up the supplies. An active low pulls 10uA from the GATE pin, ramping the (See Datasheet)", 3 TRACK1 (in) "Tracking Control Input. A resistive voltage divider between RAMPBUF and TRACKx determines the tracking profile of a slave supply (see Applications Information). TRACKx pulls up to 0.8V and the current supplied at TRACKx is (See Datasheet)", 4 TRACK2 (in) "Tracking Control Input. A resistive voltage divider between RAMPBUF and TRACKx determines the tracking profile of a slave supply (see Applications Information). TRACKx pulls up to 0.8V and the current supplied at TRACKx is (See Datasheet)", 5 RAMPBUF (out) "Ramp Buffer Output. Provides a low impedance buffered version of the signal on the RAMP pin. This buffered output drives the resistive dividers that connect to the TRACKx pins. Limit the capacitance at the RAMPBUF pin to (See Datasheet)", 6 GND (power) "Circuit Ground.", 7 FB2 (out) "Feedback Control Output. FBx pulls up on the feedback node of slave supplies. Tracking is achieved by mirroring the current from TRACKx into FBx. If the appropriate resistive divider connects RAMPBUF and TRACKx, the FBx (See Datasheet)", 8 FB1 (out) "Feedback Control Output. FBx pulls up on the feedback node of slave supplies. Tracking is achieved by mirroring the current from TRACKx into FBx. If the appropriate resistive divider connects RAMPBUF and TRACKx, the FBx (See Datasheet)", 9 ~{SDO} (oc) "Slave Supply Shutdown Output. S\D\O\ is an open-drain output that holds the shutdown (RUN/SS) pins of the slave supplies low until the ON pin is pulled above 1.23V. If the slave supply is capable of operating with an input (See Datasheet)", 10 STATUS (oc) "Power Good Status Indicator. The STATUS pin is an open-drain output that pulls low until GATE has been fully charged at which time all supplies will have reached their final operating voltage", 11 GATE (out) "Gate Drive for External N-Channel FET. When the ON pin is high, an internal 10uA current source charges the gate of the external N-channel MOSFET. A capacitor connected from GATE to GND sets the ramp rate. An internal charge (See Datasheet)", 12 RAMP (in) "Ramp Buffer Input. When the RAMP pin is connected to the source of the external N-channel FET, the slave supplies track the FET's source as it ramps up and down. If the GATE is fully enhanced (GATE > RAMP + 4.9V) and (VC(See Datasheet)", 13 EP (power) "Circuit Ground."

## LTC2923CDE#PBF
designator U?
Power Supply Tracking Controller, 12-pin SON (DE-12), 0 to 70 degC, Pb-Free; Manufacturer: Linear Technology; PartNumber: LTC2923CDE#PBF; Number of Supplies(#): 3; DatasheetVersion: Rev. A; PackageVersion: Rev. D, 06/2010; PackageReference: DE-12; PackageDescription: 12-Pin Plastic DFN, Body 4 x 3 mm, Pitch 0.5 mm; Supplier 1: Digi-Key; Supplier Part Number 1: LTC2923CDE#PBF-ND; RoHS: TRUE; Mounting Technology: Surface Mount; Code_JEDEC: MO-229; ComponentLink1Description: Manufacturer URL; ComponentLink1URL: http://www.linear.com/; ComponentLink2Description: Datasheet; ComponentLink2URL: http://cds.linear.com/docs/en/datasheet/2923fa.pdf; ComponentLink3Description: Package Specification; ComponentLink3URL: http://cds.linear.com/docs/en/packaging/DFN_12_05-08-1695.pdf
footprint LT-DE-12-05-08-1695_V (SON, 12-Leads, Body 4x3mm, Pitch 0.5mm, Thermal Pad 3.3x1.7mm)
pins: 1 VCC (power) "Positive Supply Input Pin. The operating supply input range is 2.9V to 5.5V. An undervoltage lockout circuit resets the part when the supply is below 2.5V. VCC should be bypassed to GND with a 0.1uF capacitor.", 2 ON (in) "On Control Input. The ON pin has a threshold of 1.23V with 75mV of hysteresis. An active high will cause 10uA to flow from the GATE pin, ramping up the supplies. An active low pulls 10uA from the GATE pin, ramping the (See Datasheet)", 3 TRACK1 (in) "Tracking Control Input. A resistive voltage divider between RAMPBUF and TRACKx determines the tracking profile of a slave supply (see Applications Information). TRACKx pulls up to 0.8V and the current supplied at TRACKx is (See Datasheet)", 4 TRACK2 (in) "Tracking Control Input. A resistive voltage divider between RAMPBUF and TRACKx determines the tracking profile of a slave supply (see Applications Information). TRACKx pulls up to 0.8V and the current supplied at TRACKx is (See Datasheet)", 5 RAMPBUF (out) "Ramp Buffer Output. Provides a low impedance buffered version of the signal on the RAMP pin. This buffered output drives the resistive dividers that connect to the TRACKx pins. Limit the capacitance at the RAMPBUF pin to (See Datasheet)", 6 GND (power) "Circuit Ground.", 7 FB2 (out) "Feedback Control Output. FBx pulls up on the feedback node of slave supplies. Tracking is achieved by mirroring the current from TRACKx into FBx. If the appropriate resistive divider connects RAMPBUF and TRACKx, the FBx (See Datasheet)", 8 FB1 (out) "Feedback Control Output. FBx pulls up on the feedback node of slave supplies. Tracking is achieved by mirroring the current from TRACKx into FBx. If the appropriate resistive divider connects RAMPBUF and TRACKx, the FBx (See Datasheet)", 9 ~{SDO} (oc) "Slave Supply Shutdown Output. S\D\O\ is an open-drain output that holds the shutdown (RUN/SS) pins of the slave supplies low until the ON pin is pulled above 1.23V. If the slave supply is capable of operating with an input (See Datasheet)", 10 STATUS (oc) "Power Good Status Indicator. The STATUS pin is an open-drain output that pulls low until GATE has been fully charged at which time all supplies will have reached their final operating voltage", 11 GATE (out) "Gate Drive for External N-Channel FET. When the ON pin is high, an internal 10uA current source charges the gate of the external N-channel MOSFET. A capacitor connected from GATE to GND sets the ramp rate. An internal charge (See Datasheet)", 12 RAMP (in) "Ramp Buffer Input. When the RAMP pin is connected to the source of the external N-channel FET, the slave supplies track the FET's source as it ramps up and down. If the GATE is fully enhanced (GATE > RAMP + 4.9V) and (VC(See Datasheet)", 13 EP (power) "Circuit Ground."

## LTC2923CDE#TR
designator U?
Power Supply Tracking Controller, 12-pin SON (DE-12), 0 to 70 degC, Tape and Reel; Manufacturer: Linear Technology; PartNumber: LTC2923CDE#TR; Number of Supplies(#): 3; DatasheetVersion: Rev. A; PackageVersion: Rev. D, 06/2010; PackageReference: DE-12; PackageDescription: 12-Pin Plastic DFN, Body 4 x 3 mm, Pitch 0.5 mm; Supplier 1: Digi-Key; Supplier Part Number 1: LTC2923CDE#TR-ND; Packing: Tape and Reel; RoHS: FALSE; Mounting Technology: Surface Mount; Code_JEDEC: MO-229; ComponentLink1Description: Manufacturer URL; ComponentLink1URL: http://www.linear.com/; ComponentLink2Description: Datasheet; ComponentLink2URL: http://cds.linear.com/docs/en/datasheet/2923fa.pdf; ComponentLink3Description: Package Specification; ComponentLink3URL: http://cds.linear.com/docs/en/packaging/DFN_12_05-08-1695.pdf
footprint LT-DE-12-05-08-1695_V (SON, 12-Leads, Body 4x3mm, Pitch 0.5mm, Thermal Pad 3.3x1.7mm)
pins: 1 VCC (power) "Positive Supply Input Pin. The operating supply input range is 2.9V to 5.5V. An undervoltage lockout circuit resets the part when the supply is below 2.5V. VCC should be bypassed to GND with a 0.1uF capacitor.", 2 ON (in) "On Control Input. The ON pin has a threshold of 1.23V with 75mV of hysteresis. An active high will cause 10uA to flow from the GATE pin, ramping up the supplies. An active low pulls 10uA from the GATE pin, ramping the (See Datasheet)", 3 TRACK1 (in) "Tracking Control Input. A resistive voltage divider between RAMPBUF and TRACKx determines the tracking profile of a slave supply (see Applications Information). TRACKx pulls up to 0.8V and the current supplied at TRACKx is (See Datasheet)", 4 TRACK2 (in) "Tracking Control Input. A resistive voltage divider between RAMPBUF and TRACKx determines the tracking profile of a slave supply (see Applications Information). TRACKx pulls up to 0.8V and the current supplied at TRACKx is (See Datasheet)", 5 RAMPBUF (out) "Ramp Buffer Output. Provides a low impedance buffered version of the signal on the RAMP pin. This buffered output drives the resistive dividers that connect to the TRACKx pins. Limit the capacitance at the RAMPBUF pin to (See Datasheet)", 6 GND (power) "Circuit Ground.", 7 FB2 (out) "Feedback Control Output. FBx pulls up on the feedback node of slave supplies. Tracking is achieved by mirroring the current from TRACKx into FBx. If the appropriate resistive divider connects RAMPBUF and TRACKx, the FBx (See Datasheet)", 8 FB1 (out) "Feedback Control Output. FBx pulls up on the feedback node of slave supplies. Tracking is achieved by mirroring the current from TRACKx into FBx. If the appropriate resistive divider connects RAMPBUF and TRACKx, the FBx (See Datasheet)", 9 ~{SDO} (oc) "Slave Supply Shutdown Output. S\D\O\ is an open-drain output that holds the shutdown (RUN/SS) pins of the slave supplies low until the ON pin is pulled above 1.23V. If the slave supply is capable of operating with an input (See Datasheet)", 10 STATUS (oc) "Power Good Status Indicator. The STATUS pin is an open-drain output that pulls low until GATE has been fully charged at which time all supplies will have reached their final operating voltage", 11 GATE (out) "Gate Drive for External N-Channel FET. When the ON pin is high, an internal 10uA current source charges the gate of the external N-channel MOSFET. A capacitor connected from GATE to GND sets the ramp rate. An internal charge (See Datasheet)", 12 RAMP (in) "Ramp Buffer Input. When the RAMP pin is connected to the source of the external N-channel FET, the slave supplies track the FET's source as it ramps up and down. If the GATE is fully enhanced (GATE > RAMP + 4.9V) and (VC(See Datasheet)", 13 EP (power) "Circuit Ground."